# EAGLE library part 555 (library we-chip)
NE555 Timer
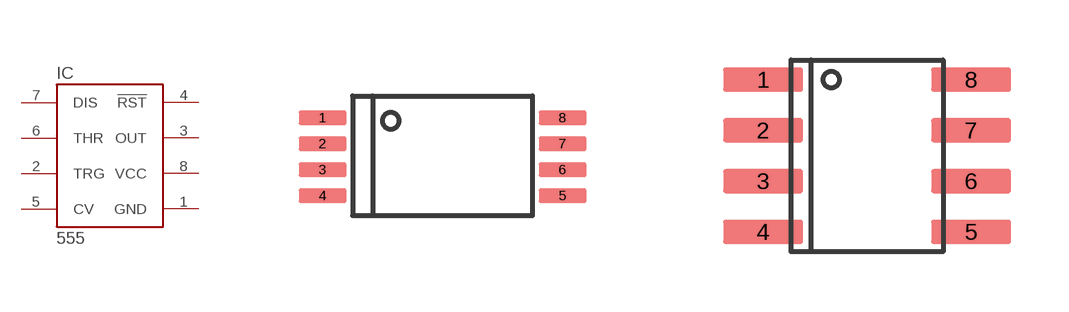
[diagram p57: symbol with the pads of TSSOP08; footprints TSSOP08, SO08]

Designator prefix IC

## 555PW  [TSSOP08]
1  GND  pwr
2  TRG  in
3  OUT  out
4  !RST  in
5  CV  in
6  THR  in
7  DIS  in
8  VCC  pwr

## 555D  [SO08]
Pads as for TSSOP08

## Footprint TSSOP08 (pad centres in mm)
smd 1.2 x 0.35: 1 -3,0.998; 2 -3,0.347; 3 -3,-0.302; 4 -3,-0.953; 5 3,-0.953; 6 3,-0.302; 7 3,0.347; 8 3,0.998

## Footprint SO08 (pad centres in mm)
smd 2 x 0.6: 1 -2.6,1.905; 2 -2.6,0.635; 3 -2.6,-0.635; 4 -2.6,-1.905; 5 2.6,-1.905; 6 2.6,-0.635; 7 2.6,0.635; 8 2.6,1.905